# Altium integrated library TI SimpleLink BLE MCUs.IntLib: 1 symbol
Pins are listed as number, name and electrical type; pins without a type are passive.

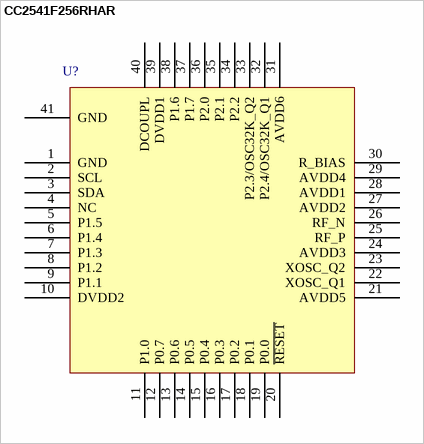
[diagram p0: symbol CC2541F256RHAR]

## CC2541F256RHAR
designator U?
IC RF TxRx + MCU Bluetooth Bluetooth v4.0 2.4GHz 40-VFQFN Exposed Pad; Manufacturer: Texas Instruments; PartNumber: CC2541F256RHAR; Package: 40-VFQFN; PackageDescription: QFN, 40-Leads, Body 6.2x6.2mm (max), Pitch 0.50mm; Supplier 1: Digi-Key; Supplier Part Number 1: 296-37144-2-ND
footprint QFN50P600X600X100-40L (QFN, 40-Leads, Body 6.2x6.2mm (max), Pitch 0.50mm, IPC High Density)
footprint QFN50P600X600X100-40M (QFN, 40-Leads, Body 6.2x6.2mm (max), Pitch 0.50mm, IPC Low Density)
footprint QFN50P600X600X100-40N (QFN, 40-Leads, Body 6.2x6.2mm (max), Pitch 0.50mm, IPC Medium Density)
pins: 1 GND, 2 SCL, 3 SDA, 4 NC, 5 P1.5, 6 P1.4, 7 P1.3, 8 P1.2, 9 P1.1, 10 DVDD2, 11 P1.0, 12 P0.7, 13 P0.6, 14 P0.5, 15 P0.4, 16 P0.3, 17 P0.2, 18 P0.1, 19 P0.0, 20 ~{RESET}, 21 AVDD5, 22 XOSC_Q1, 23 XOSC_Q2, 24 AVDD3, 25 RF_P, 26 RF_N, 27 AVDD2, 28 AVDD1, 29 AVDD4, 30 R_BIAS, 31 AVDD6, 32 P2.4/OSC32K_Q1, 33 P2.3/OSC32K_Q2, 34 P2.2, 35 P2.1, 36 P2.0, 37 P1.7, 38 P1.6, 39 DVDD1, 40 DCOUPL, 41 GND